# Altium schematic symbol library Sch_Diodes.SchLib: 10 symbols
Pins are listed as number, name and electrical type; pins without a type are passive.

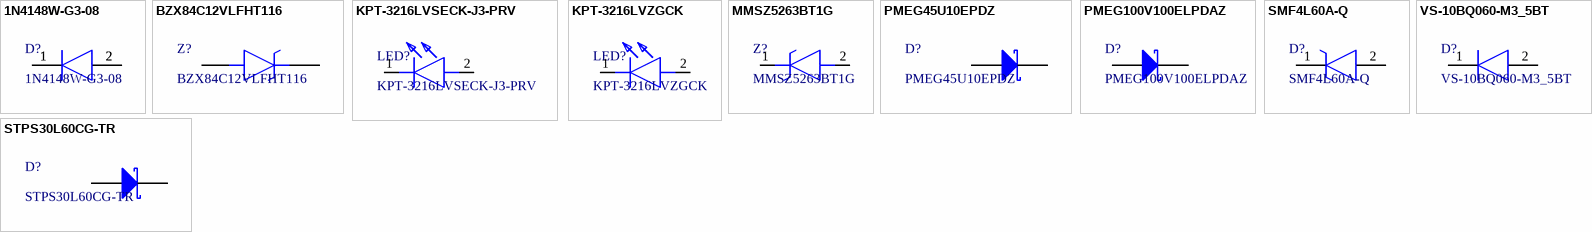
[diagram p0: symbols 1N4148W-G3-08 to VS-10BQ060-M3_5BT]

## 1N4148W-G3-08
designator D?
Diode; Manufacturer_Name: Vishay; Datasheet Link: https://componentsearchengine.com/Datasheets/1/1N4148W-G3-08.pdf; Height: 1.35mm; Manufacturer_Part_Number: 1N4148W-G3-08; Mouser Part Number: 78-1N4148W-G3-08; Mouser Price/Stock: https://www.mouser.co.uk/ProductDetail/Vishay-Semiconductors/1N4148W-G3-08?qs=uS%252BVSIFnvp46StDBB15x4Q%3D%3D; Arrow Part Number: 1N4148W-G3-08; Arrow Price/Stock: https://www.arrow.com/en/products/1n4148w-g3-08/vishay
footprint SOD3716X135N
pins: 1 K, 1 K, 2 A, 2 A

## BZX84C12VLFHT116
designator Z?
Zener Diode
footprint SOT95P240X115-3N
pins: 1 A, 1 A, 2 A, 2 A, 3 K, 3 K

## KPT-3216LVSECK-J3-PRV
designator LED?
LED red; Manufacturer_Name: Kingbright; Datasheet Link: https://componentsearchengine.com/Datasheets/2/KPT-3216LVSECK-J3-PRV.pdf; Height: 0.95mm; Manufacturer_Part_Number: KPT-3216LVSECK-J3-PRV; Arrow Part Number: KPT-3216LVSECK-J3-PRV; Arrow Price/Stock: https://www.arrow.com/en/products/kpt-3216lvseck-j3-prv/kingbright
footprint LEDC3216X95N
pins: 1 K, 2 A

## KPT-3216LVZGCK
designator LED?
LED green; Manufacturer_Name: Kingbright; Datasheet Link: http://www.farnell.com/datasheets/2068438.pdf; Height: 0.95mm; Manufacturer_Part_Number: KPT-3216LVZGCK
footprint LEDC3216X95N
pins: 1 K, 2 A

## MMSZ5263BT1G
designator Z?
Zener Diode; Manufacturer_Name: ON Semiconductor; Datasheet Link: http://www.onsemi.com/pub/Collateral/MMSZ5221BT1-D.PDF; Height: 1.35mm; Manufacturer_Part_Number: MMSZ5263BT1G; Mouser Part Number: 863-MMSZ5263BT1G; Mouser Price/Stock: https://www.mouser.co.uk/ProductDetail/onsemi/MMSZ5263BT1G?qs=ZpPixqFcBtxaamSEBIiIIg%3D%3D; Arrow Part Number: MMSZ5263BT1G; Arrow Price/Stock: https://www.arrow.com/en/products/mmsz5263bt1g/on-semiconductor?region=nac
footprint SOD3716X135N
pins: 1 K, 2 A

## PMEG45U10EPDZ
designator D?
Schottky Diode; Manufacturer_Name: Nexperia; Datasheet Link: https://assets.nexperia.com/documents/data-sheet/PMEG45U10EPD.pdf; Height: 0.82mm; Manufacturer_Part_Number: PMEG45U10EPDZ; Mouser Part Number: 771-PMEG45U10EPDZ; Mouser Price/Stock: https://www.mouser.co.uk/ProductDetail/Nexperia/PMEG45U10EPDZ?qs=M%2FOdCRO8QQ0v3Dd16sTKSg%3D%3D; Arrow Part Number: PMEG45U10EPDZ; Arrow Price/Stock: https://www.arrow.com/en/products/pmeg45u10epdz/nexperia
footprint PMEG45U10EPDZ
pins: 1, 2, 3

## PMEG100V100ELPDAZ
designator D?
Diode; Manufacturer_Name: Nexperia; Datasheet Link: https://assets.nexperia.com/documents/data-sheet/PMEG100V100ELPD.pdf; Height: 0.82mm; Manufacturer_Part_Number: PMEG100V100ELPDAZ; Mouser Part Number: 771-MEG100V100ELPDAZ; Mouser Price/Stock: https://www.mouser.co.uk/ProductDetail/Nexperia/PMEG100V100ELPDAZ?qs=64Y9EYqwa9iK90zZrx4xYg%3D%3D; Arrow Part Number: PMEG100V100ELPDAZ; Arrow Price/Stock: https://www.arrow.com/en/products/pmeg100v100elpdaz/nexperia
footprint PMEG100V100ELPDAZ
pins: 1 A_1, 2 A_2, 3 K

## SMF4L60A-Q
designator D?
TVS Diode (Uni-directional); Manufacturer_Name: Bourns; Datasheet Link: https://bourns.com/docs/product-datasheets/smf4l-q.pdf; Height: 1.35mm; Manufacturer_Part_Number: SMF4L60A-Q; Mouser Part Number: 652-SMF4L60A-Q; Mouser Price/Stock: https://www.mouser.co.uk/ProductDetail/Bourns/SMF4L60A-Q?qs=iLbezkQI%252BsjmazDMS%252BOglQ%3D%3D
footprint SODFL3716X135N
pins: 1 K, 2 A

## STPS30L60CG-TR
designator D?
Schottky Diode
footprint STPS30L60CGTR
pins: 1, 2, 3

## VS-10BQ060-M3_5BT
designator D?
Diode; Manufacturer_Name: Vishay; Manufacturer_Part_Number: VS-10BQ060-M3/5BT; Datasheet Link: https://componentsearchengine.com/Datasheets/1/VS-10BQ060-M3_5BT.pdf; Height: 2.44mm; Mouser Part Number: 78-VS-10BQ060-M35BT; Mouser Price/Stock: https://www.mouser.co.uk/ProductDetail/Vishay-Semiconductors/VS-10BQ060-M3-5BT/?qs=asPD7ZL2j3Xpjq4X%2F1O06Q%3D%3D; Arrow Part Number: VS-10BQ060-M3/5BT; Arrow Price/Stock: https://www.arrow.com/en/products/vs-10bq060-m35bt/vishay
footprint DIOM5436X244N
pins: 1 K, 2 A